# Altium integrated library Lattice FPGA XP2.IntLib: 160 symbols (part 21 of 34)
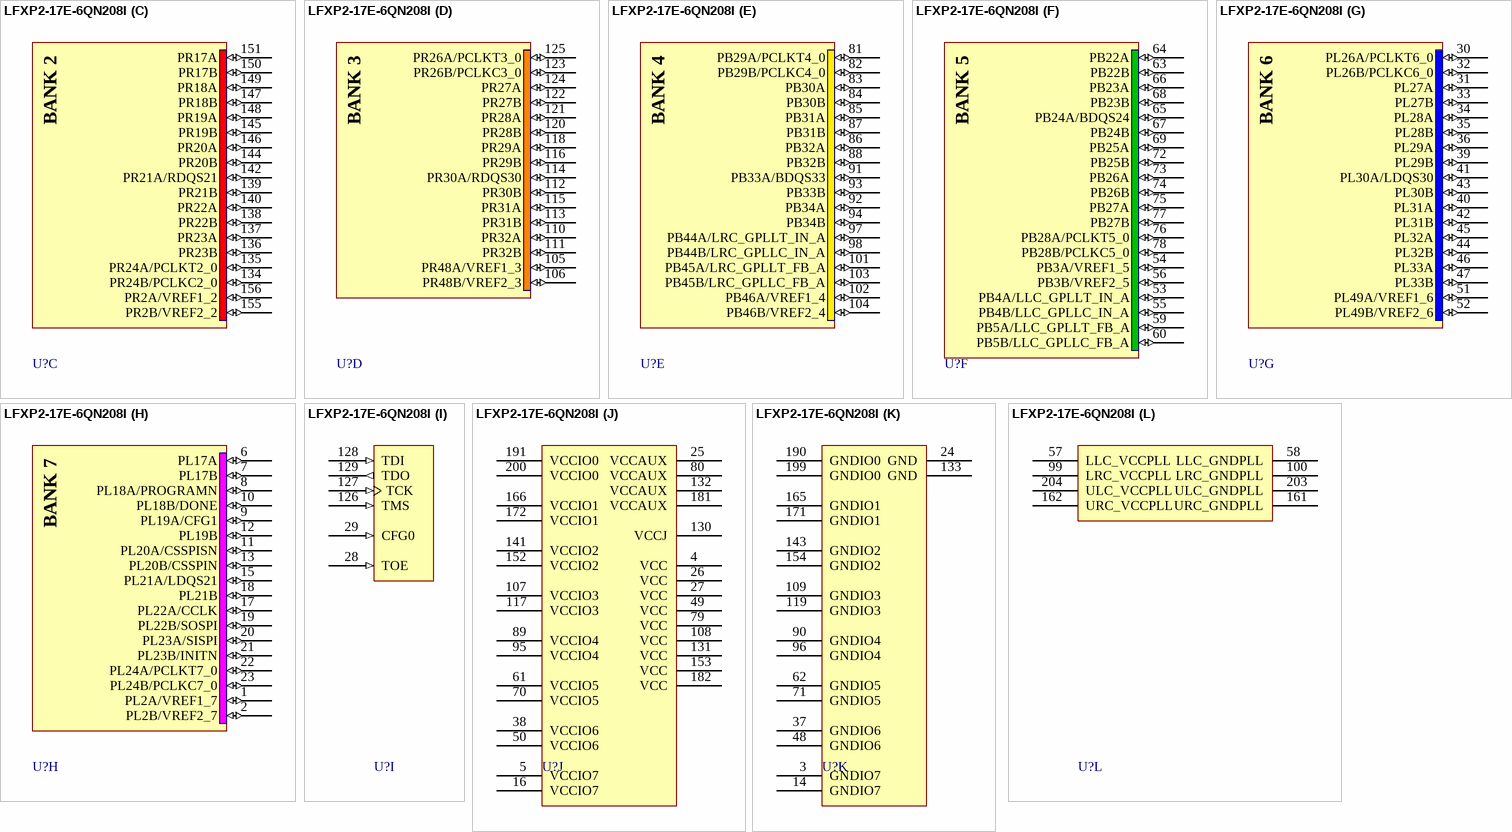
[diagram p283: symbol LFXP2-17E-6QN208I]

## LFXP2-17E-6QN208I
designator U?
XP2, 1.2V FPGA, 146 I/Os, 17k LUTs, 208-Pin PQFP, Speed Grade 6, Industrial Grade, Pb-Free; Published: 20-Jul-2007; DatasheetVersion: ver01.8, Jun-2008; PackageVersion: ver01.6 Apr-2008; PackageReference: PQFP208; Publisher: Altium Limited; PackageDescription: 208-Pin Plastic Quad Flat Pack (PQFP208); Code_JEDEC: MO-143-FAI; ComponentLink1Description: Manufacturer Link; ComponentLink1URL: http://www.latticesemi.com/products/fpga/xp2/index.cfm; ComponentLink2Description: Datasheet; ComponentLink2URL: http://www.latticesemi.com/documents/DS1009.pdf; ComponentLink3Description: Packaging Specification; ComponentLink3URL: http://www.latticesemi.com/lit/docs/package/pkg.pdf
footprint PQFP208_N (Shrink QFP, 208-Leads, Body 28x28mm, Pitch 0.5mm, IPC Medium Density)
footprint PQFP208_L (Shrink QFP, 208-Leads, Body 28x28mm, Pitch 0.5mm, IPC High Density)
footprint PQFP208_M (Shrink QFP, 208-Leads, Body 28x28mm, Pitch 0.5mm, IPC Low Density)
3D model LFXP2-17E-Q208 (208-Pin Plastic Quad Flat Pack (PQFP208))
part A pins: 183 PT28B/PCLKC0_0 (io), 184 PT27B (io), 185 PT28A/PCLKT0_0 (io), 186 PT27A (io), 187 PT26B (io), 188 PT26A (io), 189 PT25B (io), 192 PT25A (io), 193 PT23B (io), 194 PT24B (io), 195 PT23A (io), 196 PT24A/TDQS24 (io), 197 PT22A (io), 198 PT22B (io), 201 PT5B/ULC_GPLLC_FB_A (io), 202 PT5A/ULC_GPLLT_FB_A (io), 205 PT3B/VREF2_0 (io), 206 PT4B/ULC_GPLLC_IN_A (io), 207 PT3A/VREF1_0 (io), 208 PT4A/ULC_GPLLT_IN_A (io)
part B pins: 157 PT46B/VREF2_1 (io), 158 PT45B/URC_GPLLC_FB_A (io), 159 PT46A/VREF1_1 (io), 160 PT45A/URC_GPLLT_FB_A (io), 163 PT44B/URC_GPLLC_IN_A (io), 164 PT44A/URC_GPLLT_IN_A (io), 167 PT34B (io), 168 PT33B (io), 169 PT34A (io), 170 PT33A/TDQS33 (io), 173 PT32B (io), 174 PT31B (io), 175 PT32A (io), 176 PT31A (io), 177 PT30B (io), 178 PT30A (io), 179 PT29B/PCLKC1_0 (io), 180 PT29A/PCLKT1_0 (io)
part C pins: 134 PR24B/PCLKC2_0 (io), 135 PR24A/PCLKT2_0 (io), 136 PR23B (io), 137 PR23A (io), 138 PR22B (io), 139 PR21B (io), 140 PR22A (io), 142 PR21A/RDQS21 (io), 144 PR20B (io), 145 PR19B (io), 146 PR20A (io), 147 PR18B (io), 148 PR19A (io), 149 PR18A (io), 150 PR17B (io), 151 PR17A (io), 155 PR2B/VREF2_2 (io), 156 PR2A/VREF1_2 (io)
part D pins: 105 PR48A/VREF1_3 (io), 106 PR48B/VREF2_3 (io), 110 PR32A (io), 111 PR32B (io), 112 PR30B (io), 113 PR31B (io), 114 PR30A/RDQS30 (io), 115 PR31A (io), 116 PR29B (io), 118 PR29A (io), 120 PR28B (io), 121 PR28A (io), 122 PR27B (io), 123 PR26B/PCLKC3_0 (io), 124 PR27A (io), 125 PR26A/PCLKT3_0 (io)
part E pins: 81 PB29A/PCLKT4_0 (io), 82 PB29B/PCLKC4_0 (io), 83 PB30A (io), 84 PB30B (io), 85 PB31A (io), 86 PB32A (io), 87 PB31B (io), 88 PB32B (io), 91 PB33A/BDQS33 (io), 92 PB34A (io), 93 PB33B (io), 94 PB34B (io), 97 PB44A/LRC_GPLLT_IN_A (io), 98 PB44B/LRC_GPLLC_IN_A (io), 101 PB45A/LRC_GPLLT_FB_A (io), 102 PB46A/VREF1_4 (io), 103 PB45B/LRC_GPLLC_FB_A (io), 104 PB46B/VREF2_4 (io)
part F pins: 53 PB4A/LLC_GPLLT_IN_A (io), 54 PB3A/VREF1_5 (io), 55 PB4B/LLC_GPLLC_IN_A (io), 56 PB3B/VREF2_5 (io), 59 PB5A/LLC_GPLLT_FB_A (io), 60 PB5B/LLC_GPLLC_FB_A (io), 63 PB22B (io), 64 PB22A (io), 65 PB24A/BDQS24 (io), 66 PB23A (io), 67 PB24B (io), 68 PB23B (io), 69 PB25A (io), 72 PB25B (io), 73 PB26A (io), 74 PB26B (io), 75 PB27A (io), 76 PB28A/PCLKT5_0 (io), 77 PB27B (io), 78 PB28B/PCLKC5_0 (io)
part G pins: 30 PL26A/PCLKT6_0 (io), 31 PL27A (io), 32 PL26B/PCLKC6_0 (io), 33 PL27B (io), 34 PL28A (io), 35 PL28B (io), 36 PL29A (io), 39 PL29B (io), 40 PL31A (io), 41 PL30A/LDQS30 (io), 42 PL31B (io), 43 PL30B (io), 44 PL32B (io), 45 PL32A (io), 46 PL33A (io), 47 PL33B (io), 51 PL49A/VREF1_6 (io), 52 PL49B/VREF2_6 (io)
part H pins: 1 PL2A/VREF1_7 (io), 2 PL2B/VREF2_7 (io), 6 PL17A (io), 7 PL17B (io), 8 PL18A/PROGRAMN (io), 9 PL19A/CFG1 (io), 10 PL18B/DONE (io), 11 PL20A/CSSPISN (io), 12 PL19B (io), 13 PL20B/CSSPIN (io), 15 PL21A/LDQS21 (io), 17 PL22A/CCLK (io), 18 PL21B (io), 19 PL22B/SOSPI (io), 20 PL23A/SISPI (io), 21 PL23B/INITN (io), 22 PL24A/PCLKT7_0 (io), 23 PL24B/PCLKC7_0 (io)
part I pins: 28 TOE (in), 29 CFG0 (in), 126 TMS (in), 127 TCK (in), 128 TDI (in), 129 TDO (out)
part J pins: 4 VCC (power), 5 VCCIO7 (power), 16 VCCIO7 (power), 25 VCCAUX (power), 26 VCC (power), 27 VCC (power), 38 VCCIO6 (power), 49 VCC (power), 50 VCCIO6 (power), 61 VCCIO5 (power), 70 VCCIO5 (power), 79 VCC (power), 80 VCCAUX (power), 89 VCCIO4 (power), 95 VCCIO4 (power), 107 VCCIO3 (power), 108 VCC (power), 117 VCCIO3 (power), 130 VCCJ (power), 131 VCC (power), 132 VCCAUX (power), 141 VCCIO2 (power), 152 VCCIO2 (power), 153 VCC (power), 166 VCCIO1 (power), 172 VCCIO1 (power), 181 VCCAUX (power), 182 VCC (power), 191 VCCIO0 (power), 200 VCCIO0 (power)
part K pins: 3 GNDIO7 (power), 14 GNDIO7 (power), 24 GND (power), 37 GNDIO6 (power), 48 GNDIO6 (power), 62 GNDIO5 (power), 71 GNDIO5 (power), 90 GNDIO4 (power), 96 GNDIO4 (power), 109 GNDIO3 (power), 119 GNDIO3 (power), 133 GND (power), 143 GNDIO2 (power), 154 GNDIO2 (power), 165 GNDIO1 (power), 171 GNDIO1 (power), 190 GNDIO0 (power), 199 GNDIO0 (power)
part L pins: 57 LLC_VCCPLL (power), 58 LLC_GNDPLL (power), 99 LRC_VCCPLL (power), 100 LRC_GNDPLL (power), 161 URC_GNDPLL (power), 162 URC_VCCPLL (power), 203 ULC_GNDPLL (power), 204 ULC_VCCPLL (power)
part A text: BANK 0
part B text: BANK 1
part C text: BANK 2
part D text: BANK 3
part E text: BANK 4
part F text: BANK 5
part G text: BANK 6
part H text: BANK 7

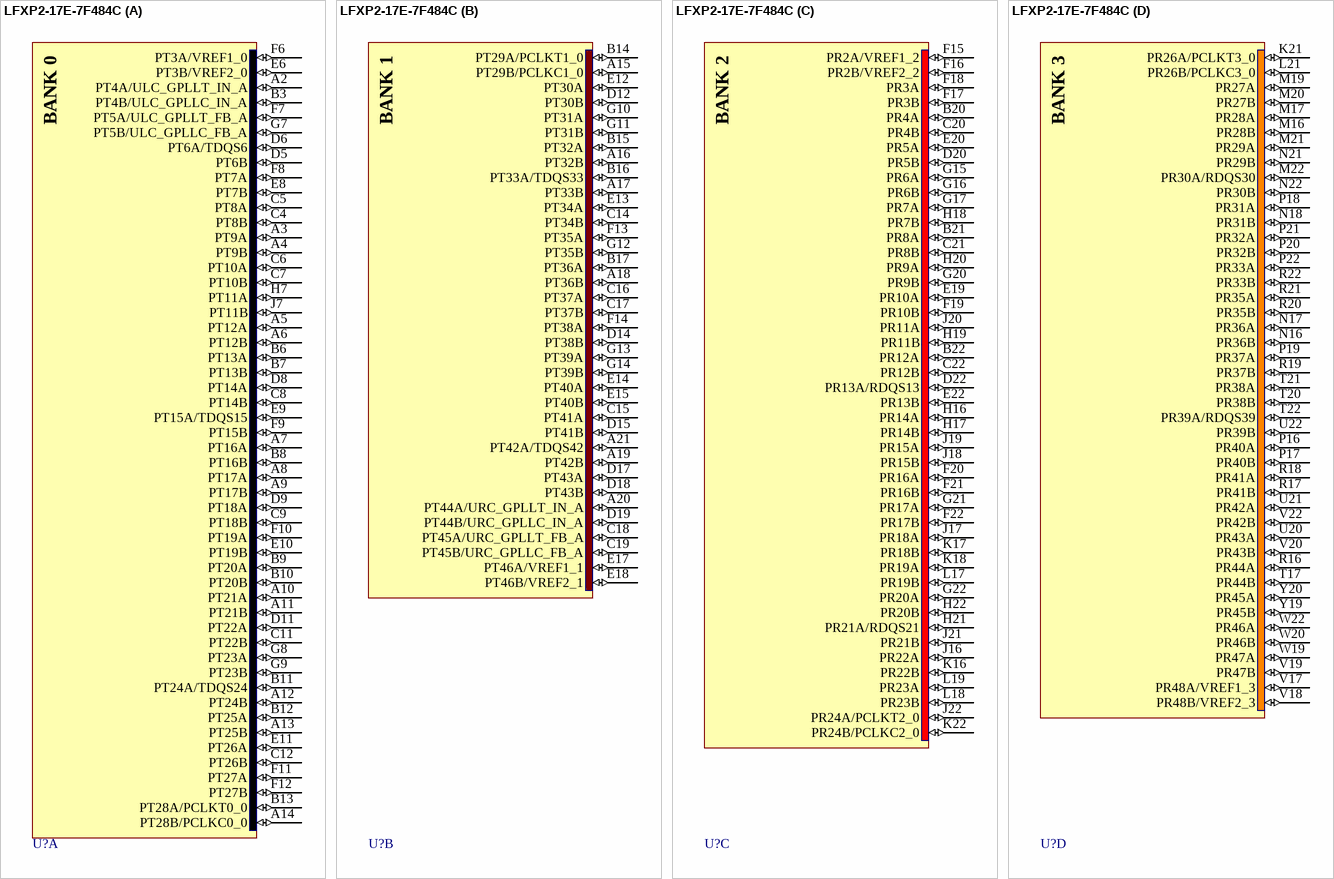
[diagram p84: symbol LFXP2-17E-7F484C]

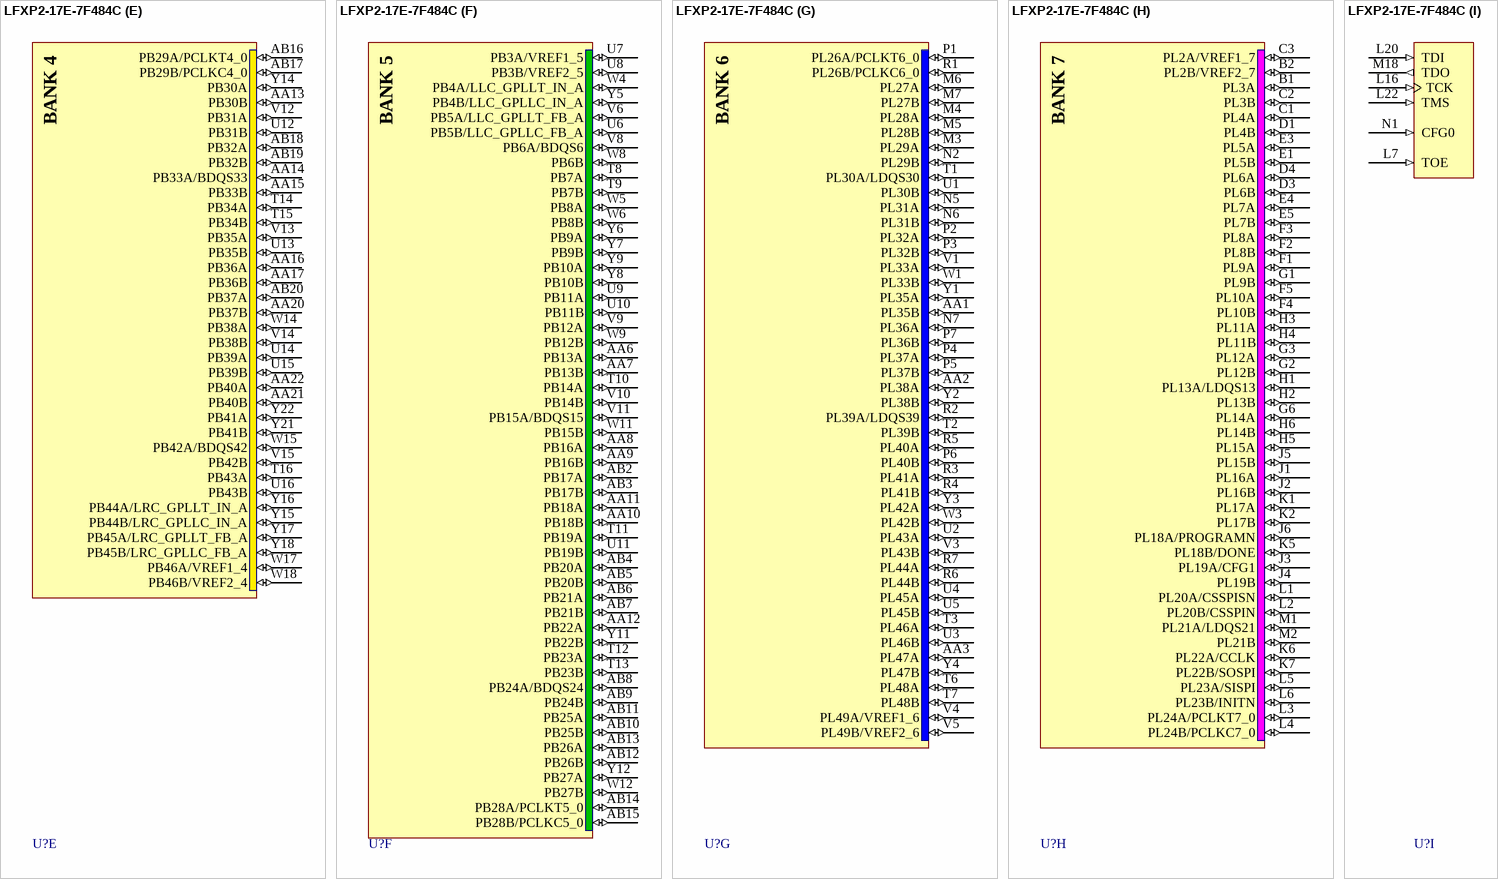
[diagram p85: symbol LFXP2-17E-7F484C]

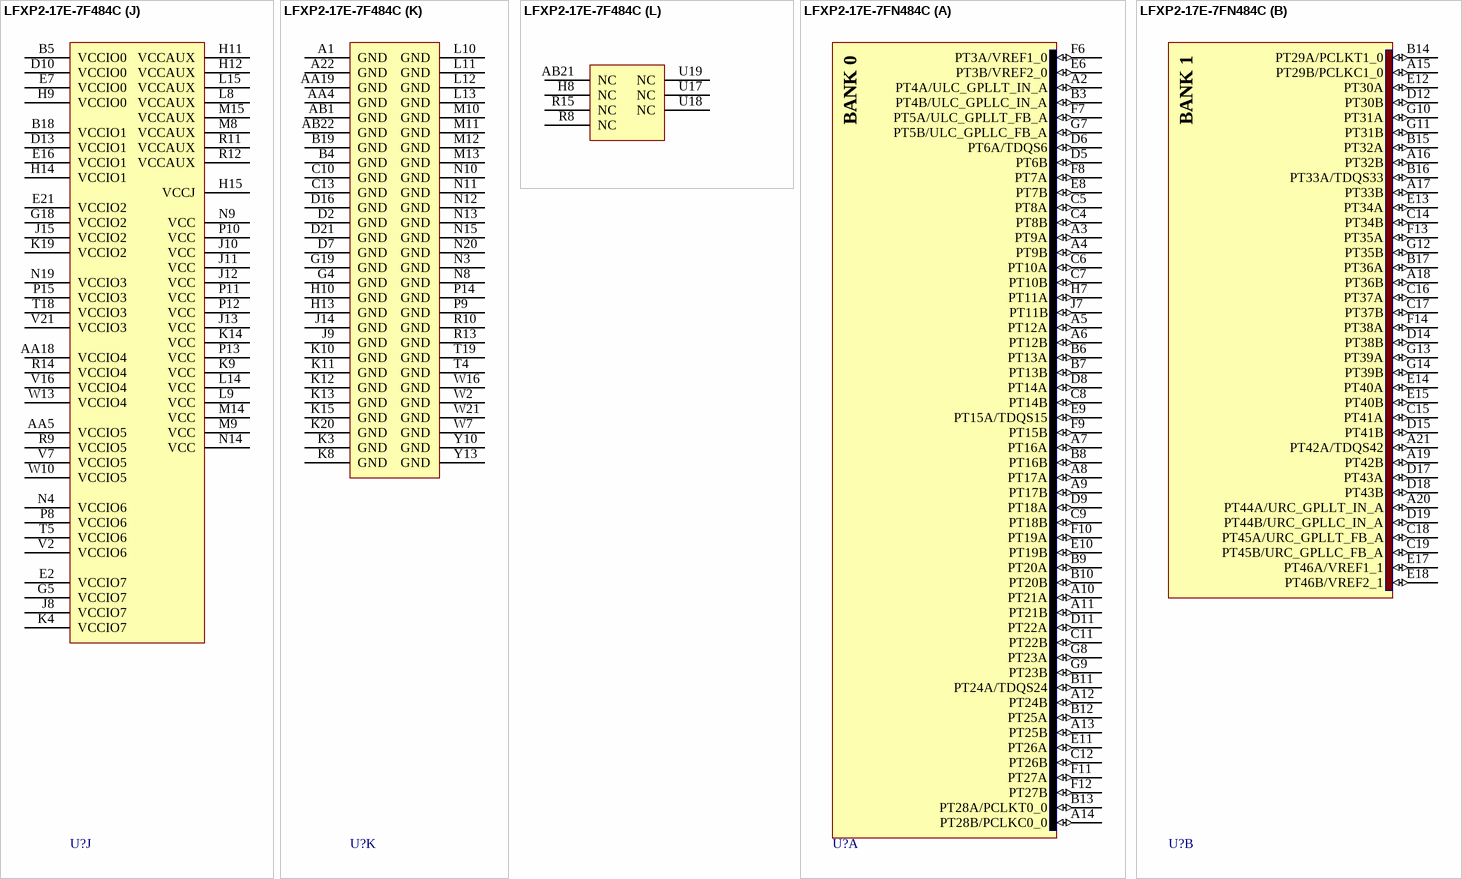
[diagram p86: symbols LFXP2-17E-7F484C to LFXP2-17E-7FN484C]